# EAGLE library part ADP2323 (library ic-AD)
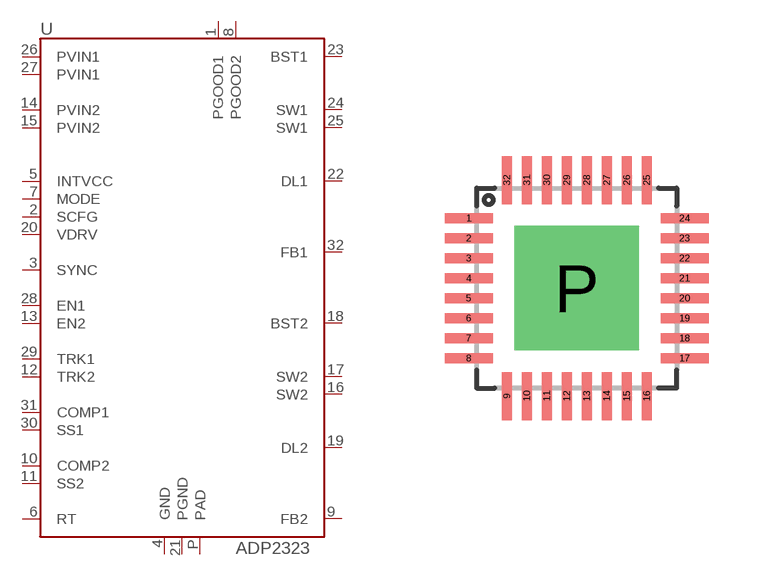
[diagram p1: symbol with the pads of QFN32-0.5-PAD; footprint QFN32-0.5-PAD]

Designator prefix U

## ADP2323  [QFN32-0.5-PAD]
1  PGOOD1
2  SCFG
3  SYNC
4  GND
5  INTVCC
6  RT
7  MODE
8  PGOOD2
9  FB2
10  COMP2
11  SS2
12  TRK2
13  EN2
14  PVIN2
15  PVIN2
16  SW2
17  SW2
18  BST2
19  DL2
20  VDRV
21  PGND
22  DL1
23  BST1
24  SW1
25  SW1
26  PVIN1
27  PVIN1
28  EN1
29  TRK1
30  SS1
31  COMP1
32  FB1
P  PAD

## Footprint QFN32-0.5-PAD (pad centres in mm)
smd 1.2 x 0.25: 1 -2.7,1.75; 2 -2.7,1.25; 3 -2.7,0.75; 4 -2.7,0.25; 5 -2.7,-0.25; 6 -2.7,-0.75; 7 -2.7,-1.25; 8 -2.7,-1.75; 17 2.7,-1.75; 18 2.7,-1.25; 19 2.7,-0.75; 20 2.7,-0.25; 21 2.7,0.25; 22 2.7,0.75; 23 2.7,1.25; 24 2.7,1.75
smd 0.25 x 1.2: 9 -1.75,-2.7; 10 -1.25,-2.7; 11 -0.75,-2.7; 12 -0.25,-2.7; 13 0.25,-2.7; 14 0.75,-2.7; 15 1.25,-2.7; 16 1.75,-2.7; 25 1.75,2.7; 26 1.25,2.7; 27 0.75,2.7; 28 0.25,2.7; 29 -0.25,2.7; 30 -0.75,2.7; 31 -1.25,2.7; 32 -1.75,2.7
drill 2.1 square: P 0,0